# Altium footprint library sumo.PcbLib: 5 footprints
Each footprint in its own frame and in the unit in brackets; x right, y up, seen from the top. Pads: shape width x height; smd on the part's side, far side on the other; paste and mask are expansions set on the pad; w line width, h text height; cw(c..) or ccw(c..) is an arc to the next point about the centre after c.
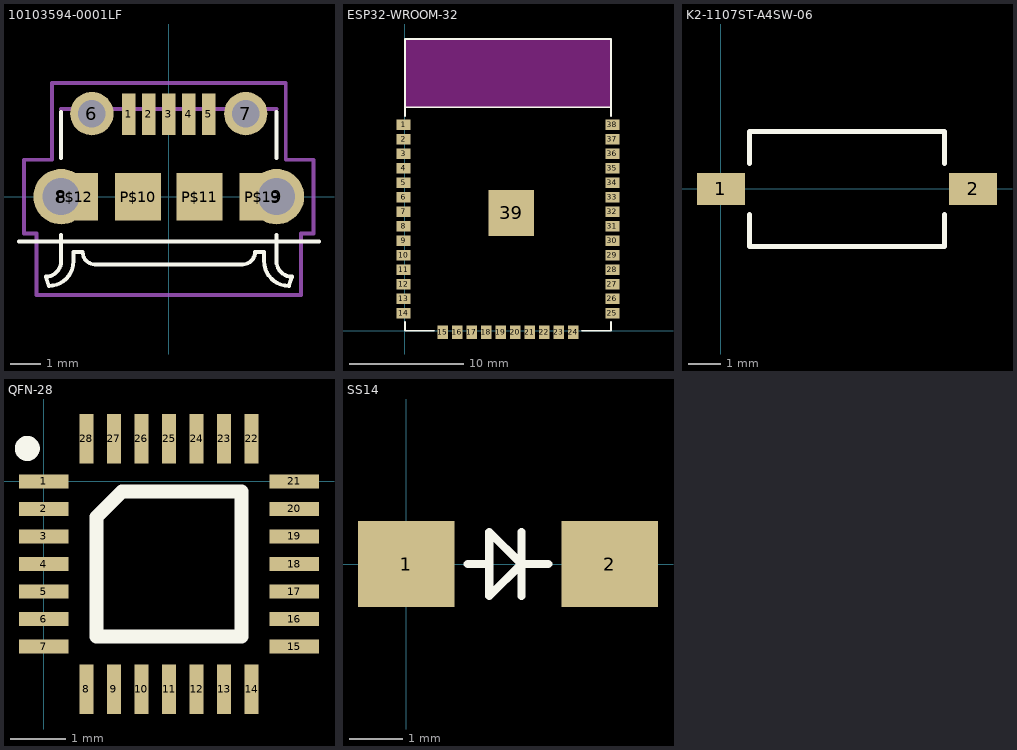
[diagram p0: the footprints below, top view; thin cyan lines are the x and y axes]

## 10103594-0001LF [mm] "Amphenol FCI Right Angle SMT Type B Version 2.0 Micro USB Connector Socket, 100 V ac, 1.8A"
pads (13):
  rect 0.45x1.35 smd: 1(-1.3,2.675) 2(-0.65,2.675) 3(0,2.675) 4(0.65,2.675) 5(1.3,2.675)
  round 1.408 hole 0.9: 6(-2.5,2.7) 7(2.5,2.7)
  round 1.8 hole 1.2: 8(-3.5,0) 9(3.5,0)
  rect 1.5x1.55 smd: P$10(-1,0) P$11(1,0) P$12(-3.05,0) P$13(3.05,0)
Top Overlay:
  lines w0.127: -4.869,-1.45 4.881,-1.45 ; -3.5,-2.15 -3.5,-2.1 ; -3.5,-1.25 -3.5,-2.1 ; -3.5,1.25 -3.5,2.75 ; 2.2,-2.2 2.4,-2.2 ccw(c2.4,-1.8) 2.8,-1.8 3.1,-1.8 3.1,-2.1 ccw(c3.9,-2.1) 3.9,-2.9 4,-2.6 cw(c4,-2.1) 3.5,-2.1 ; 2.3,-2.2 -2.4,-2.2 cw(c-2.4,-1.8) -2.8,-1.8 -3.1,-1.8 -3.1,-2.1 cw(c-3.9,-2.1) -3.9,-2.9 -4,-2.6 ccw(c-4,-2.1) -3.5,-2.1 ; 3.5,1.25 3.5,2.75 ; 3.5,-2.1 3.5,-1.25 3.5,-2.15 3.5,-2.1
Mechanical 1:
  lines w0.127: -3.5,2.85 3.5,2.85 ; -2.5,3.7 3.8,3.7 3.8,1.2 4.7,1.2 4.7,-1.2 4.3,-1.2 4.3,-3.2 -4.3,-3.2 -4.3,-1.2 -4.7,-1.2 -4.7,1.2 -3.8,1.2 -3.8,3.7 -1.8,3.7

## ESP32-WROOM-32 [mm]
pads (39):
  rect 1.2x0.9 smd: 1(-0.127,18.034) 2(-0.127,16.764) 3(-0.127,15.494) 4(-0.127,14.224) 5(-0.127,12.954) 6(-0.127,11.684) 7(-0.127,10.414) 8(-0.127,9.144) 9(-0.127,7.874) 10(-0.127,6.604) 11(-0.127,5.334) 12(-0.127,4.064) 13(-0.127,2.794) 14(-0.127,1.524) 25(18.161,1.524) 26(18.161,2.794) 27(18.161,4.064) 28(18.161,5.334) 29(18.161,6.604) 30(18.161,7.874) 31(18.161,9.144) 32(18.161,10.414) 33(18.161,11.684) 34(18.161,12.954) 35(18.161,14.224) 36(18.161,15.494) 37(18.161,16.764) 38(18.161,18.034)
  rect 0.9x1.2 smd: 15(3.302,-0.127) 16(4.57,-0.127) 17(5.84,-0.127) 18(7.11,-0.127) 19(8.38,-0.127) 20(9.65,-0.127) 21(10.92,-0.127) 22(12.19,-0.127) 23(13.46,-0.127) 24(14.73,-0.127)
  rect 4x4 smd: 39(9.3,10.3)
Top Overlay:
  lines w0.152: 0,0.762 0,0 2.54,0 ; 0,18.796 0,25.527 18.034,25.527 18.034,18.796 ; 0,19.558 18.034,19.558 ; 15.494,0 18.034,0 18.034,0.762
Keep-Out Layer:
  rectangle: 0,19.558 18.034,25.527

## K2-1107ST-A4SW-06 [mm] "SPST-NO SMD Tactile Switch"
pads (2):
  rect 1.5x1 smd: 1(0,0) 2(7.9,0)
Top Overlay:
  region: 1.1,-0.2
  lines w0.152: 0.9,-0.8 0.9,-1.8 7,-1.8 7,-0.8 ; 0.9,0.8 0.9,1.8 7,1.8 7,0.8

## QFN-28 [mm]
pads (28):
  rect 0.9x0.25 smd: 1(0,0) 2(0,-0.5) 3(0,-1) 4(0,-1.5) 5(0,-2) 6(0,-2.5) 7(0,-3) 15(4.55,-3) 16(4.55,-2.5) 17(4.55,-2) 18(4.55,-1.5) 19(4.55,-1) 20(4.55,-0.5) 21(4.55,0)
  rect 0.25x0.9 smd: 8(0.775,-3.775) 9(1.275,-3.775) 10(1.775,-3.775) 11(2.275,-3.775) 12(2.775,-3.775) 13(3.275,-3.775) 14(3.775,-3.775) 22(3.775,0.775) 23(3.275,0.775) 24(2.775,0.775) 25(2.275,0.775) 26(1.775,0.775) 27(1.275,0.775) 28(0.775,0.775)
Top Overlay:
  circle w0.254: c-0.3,0.6 r0.1
  lines w0.254: 0.958,-2.817 3.592,-2.817 3.592,-0.183 1.417,-0.183 0.958,-0.642 0.958,-2.817

## SS14 [mm]
pads (2):
  rect 1.8x1.6 smd: 1(0,0) 2(3.8,0)
Top Overlay:
  lines w0.152: 1.15,0 1.55,0 ; 2.15,-0.6 2.15,0 ; 2.65,0 2.15,0 ; 1.55,0 1.55,-0.6 2.15,0 ; 1.55,0 1.55,0.6 2.15,0 ; 2.15,0 2.15,0.6 ; 2.15,0.6 2.15,0.6